# Altium schematic symbol library CPU.SchLib: 117 symbols (part 2 of 2)
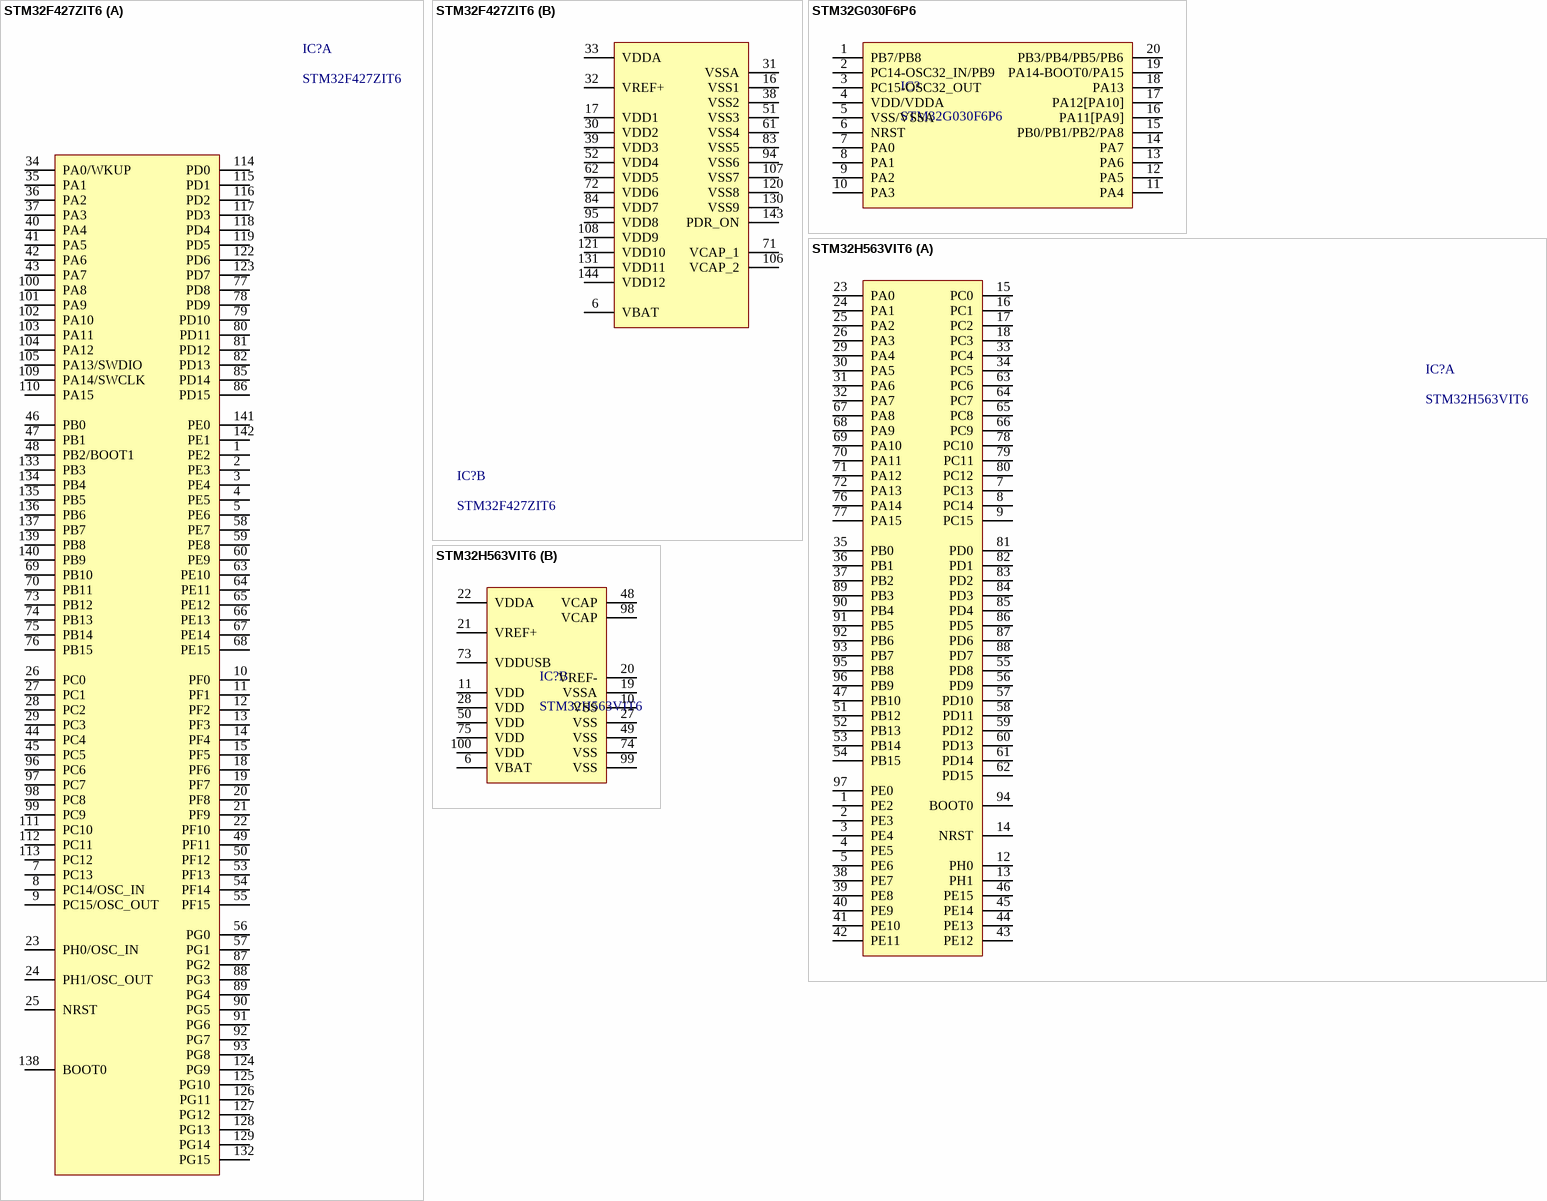
[diagram p8: symbols STM32F427ZIT6 to STM32H563VIT6]

## STM32F427ZIT6
designator IC?
2MB 1.8V~3.6V ARM-M4 256KB 180MHz FLASH 114 LQFP-144(20x20) Microcontrollers (MCU/MPU/SOC) ROHS; Manufacturer: STMicroelectronics; So_Chan_Dan: 144; So_Chan_Cam: 0; Package: LQFP-64(10x10); Mfr.Part #: STM32F427ZIT6; Name: STM32F427ZIT6
footprint LQFP-144(20x20)
part A pins: 1 PE2, 2 PE3, 3 PE4, 4 PE5, 5 PE6, 7 PC13, 8 PC14/OSC_IN, 9 PC15/OSC_OUT, 10 PF0, 11 PF1, 12 PF2, 13 PF3, 14 PF4, 15 PF5, 18 PF6, 19 PF7, 20 PF8, 21 PF9, 22 PF10, 23 PH0/OSC_IN, 24 PH1/OSC_OUT, 25 NRST, 26 PC0, 27 PC1, 28 PC2, 29 PC3, 34 PA0/WKUP, 35 PA1, 36 PA2, 37 PA3, 40 PA4, 41 PA5, 42 PA6, 43 PA7, 44 PC4, 45 PC5, 46 PB0, 47 PB1, 48 PB2/BOOT1, 49 PF11, 50 PF12, 53 PF13, 54 PF14, 55 PF15, 56 PG0, 57 PG1, 58 PE7, 59 PE8, 60 PE9, 63 PE10, 64 PE11, 65 PE12, 66 PE13, 67 PE14, 68 PE15, 69 PB10, 70 PB11, 73 PB12, 74 PB13, 75 PB14, 76 PB15, 77 PD8, 78 PD9, 79 PD10, 80 PD11, 81 PD12, 82 PD13, 85 PD14, 86 PD15, 87 PG2, 88 PG3, 89 PG4, 90 PG5, 91 PG6, 92 PG7, 93 PG8, 96 PC6, 97 PC7, 98 PC8, 99 PC9, 100 PA8, 101 PA9, 102 PA10, 103 PA11, 104 PA12, 105 PA13/SWDIO, 109 PA14/SWCLK, 110 PA15, 111 PC10, 112 PC11, 113 PC12, 114 PD0, 115 PD1, 116 PD2, 117 PD3, 118 PD4, 119 PD5, 122 PD6, 123 PD7, 124 PG9, 125 PG10, 126 PG11, 127 PG12, 128 PG13, 129 PG14, 132 PG15, 133 PB3, 134 PB4, 135 PB5, 136 PB6, 137 PB7, 138 BOOT0, 139 PB8, 140 PB9, 141 PE0, 142 PE1
part B pins: 6 VBAT, 16 VSS1, 17 VDD1, 30 VDD2, 31 VSSA, 32 VREF+, 33 VDDA, 38 VSS2, 39 VDD3, 51 VSS3, 52 VDD4, 61 VSS4, 62 VDD5, 71 VCAP_1, 72 VDD6, 83 VSS5, 84 VDD7, 94 VSS6, 95 VDD8, 106 VCAP_2, 107 VSS7, 108 VDD9, 120 VSS8, 121 VDD10, 130 VSS9, 131 VDD11, 143 PDR_ON, 144 VDD12

## STM32G030F6P6
designator IC?
ARM-M0 64MHz 18 TSSOP-20 Microcontrollers ROHS; Manufacturer: ST; So_Chna_Cam: 0; Mfr.Part #: STM32G030F6P6; Package: TSSOP-20; LCSC Part #: C724040; DigiKey Part Number: 497-STM32G030F6P6-ND; Link: https://www.lcsc.com/product-detail/Audio-Amplifiers_Jiaxing-Heroic-Elec-Tech-HT6818_C130782.html
footprint QSOP-24
pins: 1 PB7/PB8, 2 PC14-OSC32_IN/PB9, 3 PC15-OSC32_OUT, 4 VDD/VDDA, 5 VSS/VSSA, 6 NRST, 7 PA0, 8 PA1, 9 PA2, 10 PA3, 11 PA4, 12 PA5, 13 PA6, 14 PA7, 15 PB0/PB1/PB2/PA8, 16 PA11[PA9], 17 PA12[PA10], 18 PA13, 19 PA14-BOOT0/PA15, 20 PB3/PB4/PB5/PB6

## STM32H563VIT6
designator IC?
LQFP-100(14x14) Microcontrollers RoHS; Manufacturer: ST; Mfr.Part #: STM32H563VIT6; Package: LQFP-100(14x14); LCSC Part #: C6937834; DigiKey Part Number: 497-STM32H563VIT6-ND
footprint LQFP-100(14x14)
part A pins: 1 PE2, 2 PE3, 3 PE4, 4 PE5, 5 PE6, 7 PC13, 8 PC14, 9 PC15, 12 PH0, 13 PH1, 14 NRST, 15 PC0, 16 PC1, 17 PC2, 18 PC3, 23 PA0, 24 PA1, 25 PA2, 26 PA3 (power), 29 PA4, 30 PA5, 31 PA6, 32 PA7, 33 PC4, 34 PC5, 35 PB0, 36 PB1, 37 PB2, 38 PE7, 39 PE8, 40 PE9, 41 PE10, 42 PE11, 43 PE12, 44 PE13, 45 PE14, 46 PE15, 47 PB10, 51 PB12, 52 PB13, 53 PB14, 54 PB15, 55 PD8, 56 PD9, 57 PD10, 58 PD11, 59 PD12, 60 PD13, 61 PD14, 62 PD15, 63 PC6, 64 PC7, 65 PC8, 66 PC9, 67 PA8, 68 PA9, 69 PA10, 70 PA11, 71 PA12, 72 PA13, 76 PA14, 77 PA15, 78 PC10, 79 PC11, 80 PC12, 81 PD0, 82 PD1, 83 PD2, 84 PD3, 85 PD4, 86 PD5, 87 PD6, 88 PD7, 89 PB3, 90 PB4, 91 PB5, 92 PB6, 93 PB7, 94 BOOT0, 95 PB8, 96 PB9, 97 PE0
part B pins: 6 VBAT (power), 10 VSS (power), 11 VDD (power), 19 VSSA (power), 20 VREF- (power), 21 VREF+ (power), 22 VDDA, 27 VSS (power), 28 VDD, 48 VCAP (power), 49 VSS (power), 50 VDD (power), 73 VDDUSB (power), 74 VSS (power), 75 VDD (power), 98 VCAP, 99 VSS (power), 100 VDD (power)

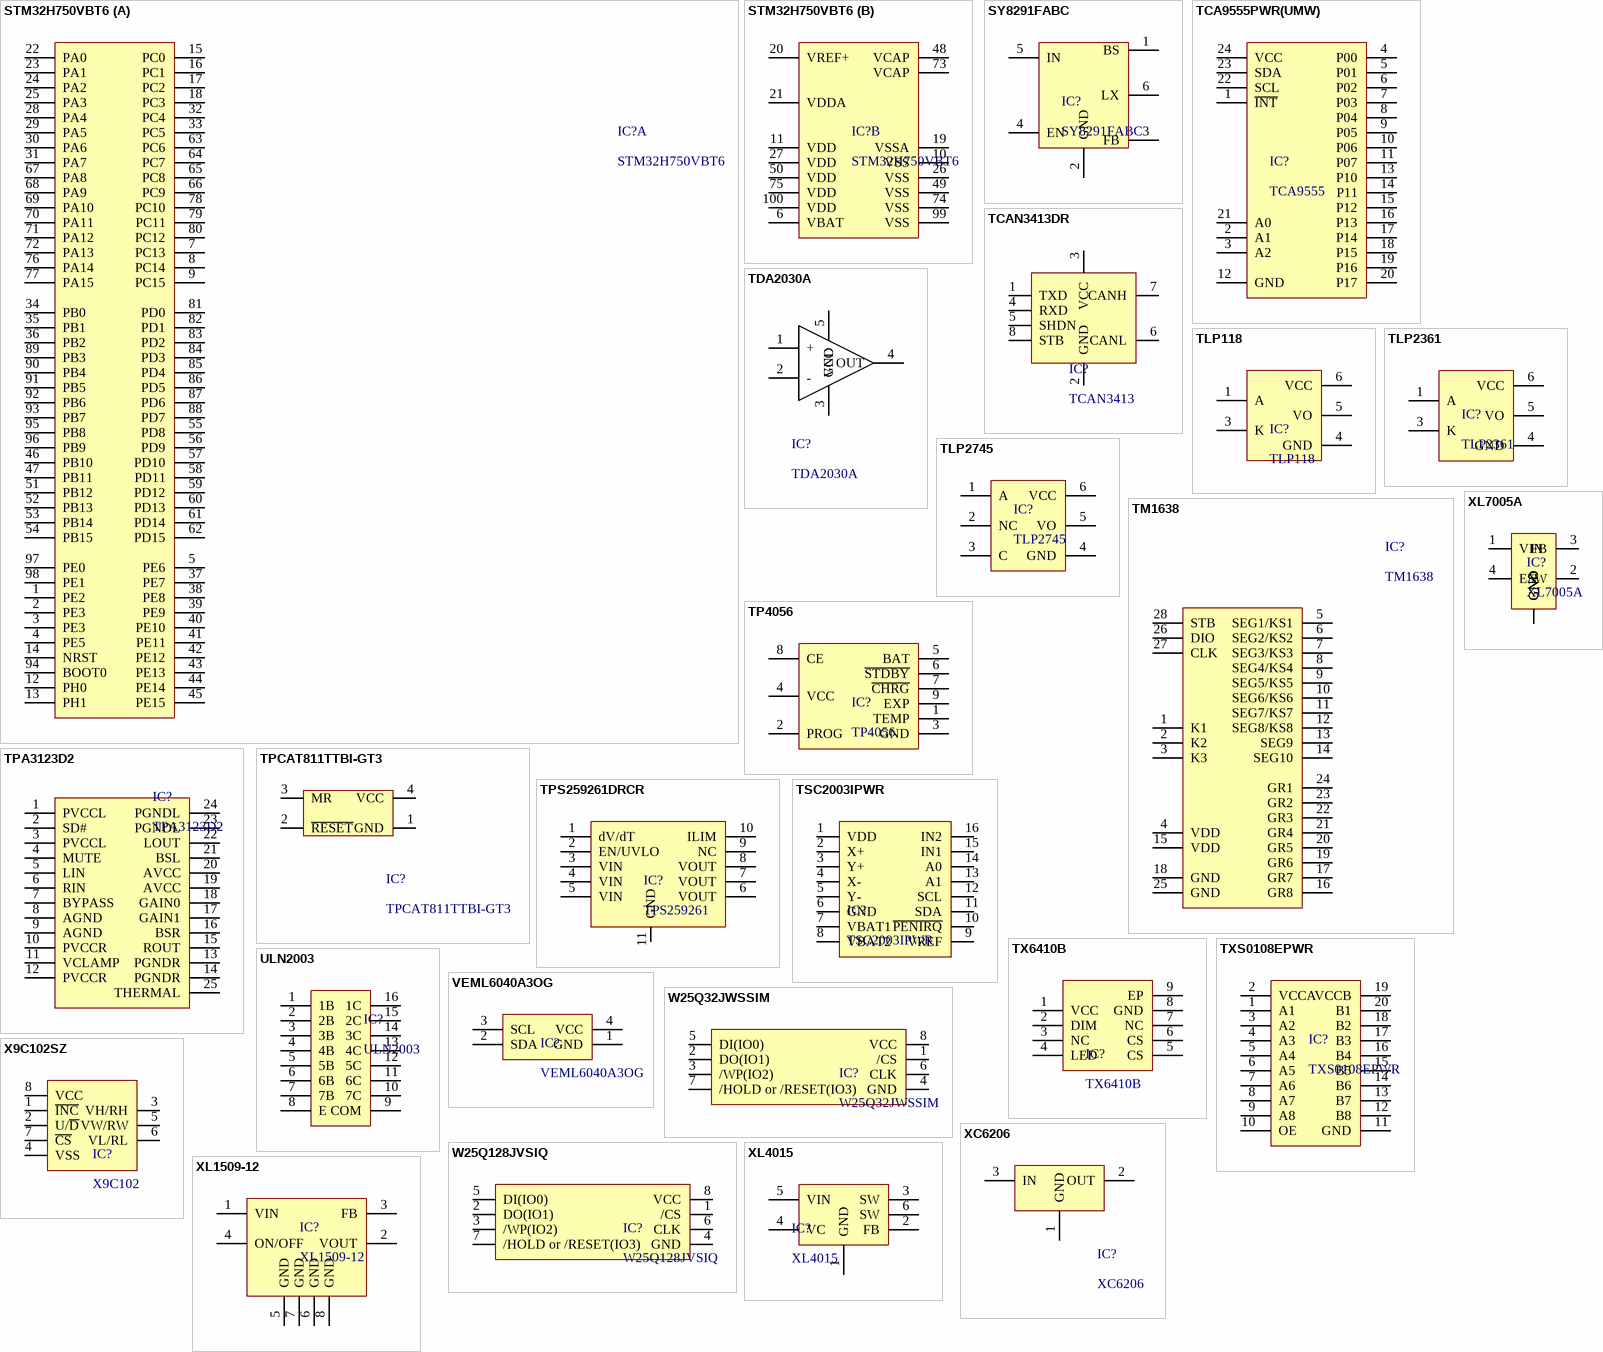
[diagram p7: symbols STM32H750VBT6 to XL7005A]

## STM32H750VBT6
designator IC?
ARM-MSeries LQFP-100(14x14) Microcontrollers (MCU/MPU/SOC) ROHS; Manufacturer: STMicroelectronics; So_Chan_Dan: 100; So_Chan_Cam: 0; Mfr.Part #: STM32H750VBT6; Package: LQFP-100(14x14); Name: STM32H750VBT6
footprint LQFP-100(14x14)
part A pins: 1 PE2, 2 PE3, 3 PE3, 4 PE5, 5 PE6, 7 PC13, 8 PC14, 9 PC15, 12 PH0, 13 PH1, 14 NRST, 15 PC0, 16 PC1, 17 PC2, 18 PC3, 22 PA0, 23 PA1, 24 PA2, 25 PA3, 28 PA4, 29 PA5, 30 PA6, 31 PA7, 32 PC4, 33 PC5, 34 PB0, 35 PB1, 36 PB2, 37 PE7, 38 PE8, 39 PE9, 40 PE10, 41 PE11, 42 PE12, 43 PE13, 44 PE14, 45 PE15, 46 PB10, 47 PB11, 51 PB12, 52 PB13, 53 PB14, 54 PB15, 55 PD8, 56 PD9, 57 PD10, 58 PD11, 59 PD12, 60 PD13, 61 PD14, 62 PD15, 63 PC6, 64 PC7, 65 PC8, 66 PC9, 67 PA8, 68 PA9, 69 PA10, 70 PA11, 71 PA12, 72 PA13, 76 PA14, 77 PA15, 78 PC10, 79 PC11, 80 PC12, 81 PD0, 82 PD1, 83 PD2, 84 PD3, 85 PD4, 86 PD5, 87 PD6, 88 PD7, 89 PB3, 90 PB4, 91 PB5, 92 PB6, 93 PB7, 94 BOOT0, 95 PB8, 96 PB9, 97 PE0, 98 PE1
part B pins: 6 VBAT (power), 10 VSS (power), 11 VDD (power), 19 VSSA (power), 20 VREF+ (power), 21 VDDA (power), 26 VSS (power), 27 VDD (power), 48 VCAP (power), 49 VSS (power), 50 VDD (power), 73 VCAP (power), 74 VSS (power), 75 VDD (power), 99 VSS (power), 100 VDD (power)

## SY8291FABC
designator IC?
Lithium-ion/Polymer 1 SOT23-6 Battery Management ROHS; Manufacturer: Silergy Corp; So_Chan_Dan: 6; So_Chan_Cam: 0; Package: SOT23-6; Name: SY8291FABC; Mfr.Part #: SY8291FABC
footprint SOT23-6
pins: 1 BS, 2 GND, 3 FB (power), 4 EN (power), 5 IN (power), 6 LX

## TCA9555PWR(UMW)
designator IC?, comment TCA9555
16 I2C TSSOP-24 I/O Expanders RoHS; Manufacturer: UMW; Mfr.Part #: TCA9555PWR(UMW); Package: TSSOP-24; LCSC Part #: C42420608; DigiKey Part Number: NO; ComponentLink1Description: Link; ComponentLink1URL: https://www.lcsc.com/product-detail/C42420608.html?s_z=n_TCA9555PWR%28UMW%29; ComponentLink2Description: Link 1
footprint TSSOP-24
pins: 1 ~{INT}, 2 A1, 3 A2, 4 P00, 5 P01, 6 P02, 7 P03, 8 P04, 9 P05, 10 P06, 11 P07, 12 GND, 13 P10, 14 P11, 15 P12, 16 P13, 17 P14, 18 P15, 19 P16, 20 P17, 21 A0, 22 SCL, 23 SDA, 24 VCC

## TCAN3413DR
designator IC?, comment TCAN3413
5Mbps CAN FD Transceiver SOIC-8 CAN Transceivers ROHS; Manufacturer: Texas Instruments; Mfr.Part #: TCAN3413DR; Package: SOIC-8; LCSC Part #: C22433320
footprint SOIC-8
pins: 1 TXD, 2 GND, 3 VCC "VH/RH", 4 RXD, 5 SHDN, 6 CANL, 7 CANH, 8 STB

## TDA2030A
designator IC?
Monaural 12Wx1@8Ω AB Class Amplifier TO-220B Audio Amplifiers ROHS; Manufacturer: UTC(Unisonic Tech); Mfr.Part #: TDA2030AL-TB5-T; So_Chan_Dan: 0; So_Chan_Cam: 5; Package: FZIP5; Name: TDA2030A
footprint FZIP5
pins: 1 +, 2 -, 3 GND, 4 OUT, 5 VCC

## TLP118
designator IC?
60ns 4.5V~5.5V 15kV/us DC SO-5-4.6mm Logic Output Optocoupler ROHS
footprint SO-5
pins: 1 A, 3 K, 4 GND, 5 VO, 6 VCC

## TLP2361
designator IC?
15Mbit/s 80ns 2.7V~5.5V 20kV/us DC SO-5 Logic Output Optocoupler ROHS
footprint SO-5
pins: 1 A, 3 K, 4 GND, 5 VO, 6 VCC

## TLP2745
designator IC?
120ns 4.5V~30V 30kV/us DC SOIC-6-300mil Logic Output Optoisolators ROHS; Manufacturer: TOSHIBA; Mfr.Part #: TLP2745(TP,E; So_Chan_Cam: 0; So_Chan_Dan: 6; Package: SOIC-6-300mil; Name: TLP2745
footprint SOIC-6-300mil
pins: 1 A, 2 NC, 3 C, 4 GND, 5 VO, 6 VCC

## TM1638
designator IC?
4.5V~5.5V 1MHz 20mA 80mA SOIC-28-300mil Display Drivers RoHS; Manufacturer: TM(Shenzhen Titan Micro Elec); Package: SOIC-28-300mil; Mft.Part #: TM1638; LCSC Part #: C19187; DigiKey Part Number: NO
footprint SOIC-28-300mil
pins: 1 K1, 2 K2, 3 K3, 4 VDD, 5 SEG1/KS1, 6 SEG2/KS2, 7 SEG3/KS3, 8 SEG4/KS4, 9 SEG5/KS5, 10 SEG6/KS6, 11 SEG7/KS7, 12 SEG8/KS8, 13 SEG9, 14 SEG10, 15 VDD, 16 GR8, 17 GR7 (power), 18 GND (power), 19 GR6 (power), 20 GR5, 21 GR4, 22 GR3 (power), 23 GR2, 24 GR1, 25 GND (power), 26 DIO (power), 27 CLK (power), 28 STB (power)

## TP4056
designator IC?
ESOP-8 Battery Management ROHS; Manufacturer: UMW(Youtai Semiconductor Co., Ltd.); So_Chan_Dan: 9; So_Chan_Cam: 0; Package: ESOP-8; Name: TP4056; Mfr.Part #: TP4056
footprint ESOP-8
pins: 1 TEMP, 2 PROG, 3 GND (power), 4 VCC (power), 5 BAT (power), 6 ~{STDBY}, 7 ~{CHRG}, 8 CE, 9 EXP

## TPA3123D2
designator IC?
Dual Channel 25Wx2@4Ω Class D Amplifier TSSOP-24-EP Audio Amplifiers ROHS; Manufacturer: Texas Instruments; Mft.Part #: TPA3123D2PWPR; So_Chan_Dan: 25; So_Chan_Cam: 0; Package: TSSOP-24-EP; Name: TPA3123D2
footprint TSSOP-24-EP
pins: 1 PVCCL, 2 SD#, 3 PVCCL, 4 MUTE, 5 LIN, 6 RIN, 7 BYPASS (power), 8 AGND, 9 AGND (power), 10 PVCCR, 11 VCLAMP, 12 PVCCR, 13 PGNDR, 14 PGNDR, 15 ROUT, 16 BSR, 17 GAIN1 (power), 18 GAIN0 (power), 19 AVCC (power), 20 AVCC, 21 BSL, 22 LOUT (power), 23 PGNDL, 24 PGNDL, 25 THERMAL (power)

## TPCAT811TTBI-GT3
designator IC?
140ms Active Low 1.2V~5.5V 1 SOT-143 Supervisor and Reset ICs ROHS; Manufacturer: TECH PUBLIC; Mfr.Part #: TPCAT811TTBI-GT3; LCSC Part #: C42449022; Package: SOT-143; DigiKey Part Number: NO; ComponentLink1Description: Link; ComponentLink1URL: https://www.lcsc.com/product-detail/C42449022.html?s_z=n_TPCAT811TTBI-GT3; ComponentLink2Description: Link 1; ComponentLink2URL: *
footprint SOT-143
pins: 1 GND, 2 ~{RESET}, 3 MR, 4 VCC

## TPS259261DRCR
designator IC?, comment TPS259261
5A Active High VSON-10-EP(3x3) Current Regulation/Management RoHS; Manufacturer: TI; Mfr.Part #: TPS259261DRCR; Package: VSON-10-EP(3x3); DigiKey Part Number: 296-47235-2-ND; LCSC Part #: C182419; ComponentLink1Description: Link; ComponentLink1URL: https://www.lcsc.com/product-detail/C182419.html?s_z=n_TPS259261DRCR; ComponentLink2Description: Link 1; ComponentLink2URL: https://www.digikey.com/en/products/detail/texas-instruments/TPS259261DRCR/5481852?s=N4IgTCBcDa4JwDYC0AWA7GAzAViWJAcgCIgC6AvkA
footprint TDFN-10-EP(3x3)
pins: 1 dV/dT, 2 EN/UVLO, 3 VIN, 4 VIN, 5 VIN, 6 VOUT, 7 VOUT, 8 VOUT, 9 NC, 10 ILIM, 11 GND

## TSC2003IPWR
designator IC?
12 2.5V~5.25V I2C TSSOP-16 Touch Screen Controllers RoHS; Manufacturer: TI; Mfr.Part #: TSC2003IPWR; Package: TSSOP-16; LCSC Part #: C34467; DigiKey Part Number: 296-14340-2-ND
footprint TSSOP-16
pins: 1 VDD, 2 X+, 3 Y+, 4 X-, 5 Y-, 6 GND, 7 VBAT1, 8 VBAT2, 9 VREF, 10 ~{PENIRQ}, 11 SDA, 12 SCL, 13 A1, 14 A0, 15 IN1, 16 IN2

## TX6410B
designator IC?
2.5V~30V PWM 1 2A 2.5V~30V ESOP-8 LED Drivers ROHS; Manufacturer: XDS; So_Chan_Dan: 9; So_Chan_Cam: 0; ComponentLink1Description: New link; ComponentLink1URL: https://www.lcsc.com/product-detail/LED-Drivers_XDS-TX6410B_C524847.html; Mfr.Part #: TX6410B; Package: ESOP-8; Name: TX6410B
footprint ESOP-8
pins: 1 VCC, 2 DIM, 3 NC, 4 LED, 5 CS, 6 CS, 7 NC, 8 GND, 9 EP

## TXS0108EPWR
designator IC?
60Mbps 1 8 TSSOP-20 Translators, Level Shifters RoHS; Manufacturer: TI; Mfr.Part #: TXS0108EPWR; Package: TSSOP-20; LCSC Part #: C17206; DigiKey Part Number: 296-23011-2-ND; ComponentLink1Description: Link; ComponentLink1URL: https://www.lcsc.com/product-detail/C17206.html?s_z=n_TXS0108EPWR; ComponentLink2Description: Link 1; ComponentLink2URL: https://www.digikey.com/en/products/detail/texas-instruments/TXS0108EPWR/1775302
footprint TSSOP-20
pins: 1 A1, 2 VCCA, 3 A2, 4 A3, 5 A4, 6 A5, 7 A6, 8 A7, 9 A8, 10 OE, 11 GND, 12 B8, 13 B7, 14 B6, 15 B5, 16 B4, 17 B3, 18 B2, 19 VCCB, 20 B1

## ULN2003
designator IC?
7 50V 500mA SOIC-16 Bipolar Transistor Arrays ROHS; Manufacturer: TI; Mfr.Part #: ULN2003BDR; Package: SOIC-16; LCSC Part #: C157485
footprint SOIC-16
pins: 1 1B, 2 2B, 3 3B, 4 4B, 5 5B, 6 6B, 7 7B, 8 E, 9 COM, 10 7C, 11 6C, 12 5C, 13 4C, 14 3C, 15 2C, 16 1C

## VEML6040A3OG
designator IC?
I2C Red,Green,Blue,White OPLGA-4(1.3x2) Ambient Light Sensors ROHS; Manufacturer: Vishay Intertech; So_Chan_Dan: 4; So_Chan_Cam: 0; Package: OPLGA-4(1.3x2); Name: VEML6040A3OG; Mfr.Part #: VEML6040A3OG
footprint OPLGA-4(1.3x2)
pins: 1 GND, 2 SDA, 3 SCL (power), 4 VCC (power)

## W25Q32JWSSIM
designator IC?
32Mbit 1.7V~1.95V 133MHz SPI SOIC-8-208mil Memory (ICs) RoHS; Manufacturer: Winbond; Package: SOIC-8-208mil; Mfr.Part #: W25Q32JWSSIM; LCSC Part #: C7117009; DigiKey Part Number: 256-W25Q32JWSSIM-ND
footprint SOIC-8-208mil
pins: 1 /CS, 2 DO(IO1), 3 /WP(IO2), 4 GND, 5 DI(IO0), 6 CLK, 7 /HOLD or /RESET(IO3), 8 VCC

## W25Q128JVSIQ
designator IC?
128Mbit 2.7V~3.6V 133MHz SPI SOIC-8-208mil Memory (ICs) RoHS; Manufacturer: Winbond; Package: SOIC-8-208mil; Mfr.Part #: W25Q128JVSIQ; LCSC Part #: C97521; DigiKey Part Number: W25Q128JVSIQ-ND
footprint SOIC-8-208mil
pins: 1 /CS, 2 DO(IO1), 3 /WP(IO2), 4 GND, 5 DI(IO0), 6 CLK, 7 /HOLD or /RESET(IO3), 8 VCC

## X9C102SZ
designator IC?, comment X9C102
±20% 4.5V~5.5V 1kΩ SOIC-8-150mil Digital Potentiometers ROHS; Manufacturer: RENESAS; Mfr.Part #: X9C102SZ; Package: SOIC-8-150mil; LCSC Part #: C1520914
footprint SOIC-8
pins: 1 ~{INC}, 2 U/~{D}, 3 VH/RH, 4 VSS, 5 VW/RW, 6 VL/RL, 7 ~{CS}, 8 VCC

## XC6206
designator IC?
40dB@(1kHz) 250mA Fixed 2.8V Positive electrode 8V SOT-23 Voltage Regulators - Linear, Low Drop Out (LDO) Regulators ROHS; Manufacturer: UMW(Youtai Semiconductor Co., Ltd.); Mfr.Part #: XC6206P282MR; So_Chan_Dan: 3; So_Chan_Cam: 0; Name: XC6206; ComponentLink1Description: New link; ComponentLink1URL: https://www.lcsc.com/product-detail/Voltage-Regulators-Linear-Low-Drop-Out-LDO-Regulators_UMW-Youtai-Semiconductor-Co-Ltd-XC6206P282MR_C347374.html; Package: SOT-23
footprint SOT-23
pins: 1 GND, 2 OUT, 3 IN

## XL1509-12
designator IC?
SOIC-8 DC-DC Converters ROHS
footprint SOIC-8
pins: 1 VIN, 2 VOUT, 3 FB, 4 ON/OFF, 5 GND, 6 GND, 7 GND, 8 GND

## XL4015
designator IC?
Step-down type TO-263-5 DC-DC Converters ROHS; Manufactuerer: XLSEMI; Mfr.Part #: XL4015E1; So_Chan_Dan: 6; So_Chan_Cam: 0; Package: TO-263-5; Name: XL4015
footprint TO-263-5L
pins: 1 GND, 2 FB, 3 SW, 4 VC, 5 VIN, 6 SW

## XL7005A
designator IC?
Step-down type SOIC-8-EP DC-DC Converters ROHS; Manufacturer: XLSEMI; Mfr.Part #: XL7005A; Package: SOIC-8-EP
footprint ESOP-8
pins: 1 VIN, 2 SW, 3 FB, 4 EN, 5 GND, 6 GND, 7 GND, 8 GND, 9 GND